# Altium footprint library ST VFPDFN-10.PCBLIB: 1 footprints
Each footprint in its own frame and in the unit in brackets; x right, y up, seen from the top. Pads: shape width x height; smd on the part's side, far side on the other; paste and mask are expansions set on the pad; w line width, h text height; cw(c..) or ccw(c..) is an arc to the next point about the centre after c.
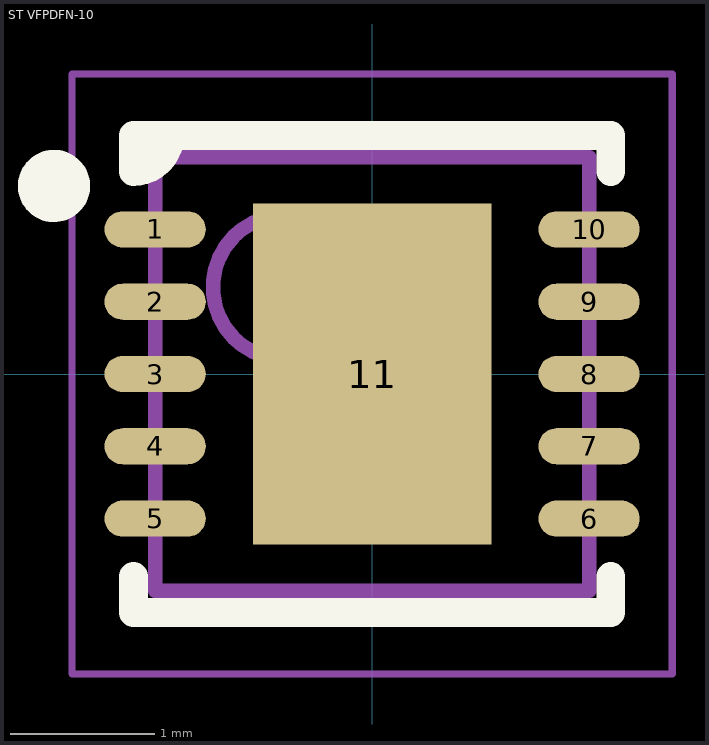
[diagram p0: the footprint, top view; thin cyan lines are the x and y axes]

## ST VFPDFN-10 [mm] "VFPDFN, 10-Leads, Body 3.00x3.00mm, Pitch 0.50mm, Thermal Pad 1.62x2.36mm, IPC Medium Density"
height 1
pads (11):
  oval 0.7x0.25 smd: 1(-1.5,1) 2(-1.5,0.5) 3(-1.5,0) 4(-1.5,-0.5) 5(-1.5,-1) 6(1.5,-1) 7(1.5,-0.5) 8(1.5,0) 9(1.5,0.5) 10(1.5,1)
  rect 1.65x2.36 smd: 11(0,0)
Top Overlay:
  circle w0.25: c-2.2,1.3 r0.125
  region: -1.65,1.65 -1.4,1.65 -1.65,1.4
  lines w0.2: -1.65,-1.4 -1.65,-1.65 1.65,-1.65 1.65,-1.4 ; -1.4,1.65 cw(c-1.65,1.65) -1.65,1.4 -1.65,1.65 1.65,1.65 1.65,1.4
Mechanical 13:
  circle w0.1: c-0.6,0.6 r0.5
  lines w0.1: -1.5,-1.5 1.5,-1.5 1.5,1.5 -1.5,1.5 -1.5,-1.5
Mechanical 15:
  lines w0.05: -2.075,-2.075 2.075,-2.075 2.075,2.075 -2.075,2.075 -2.075,-2.075
  lines w0.1: -0.5,0 0.5,0 ; 0,-0.5 0,0.5
3D body: height 1, standoff 0.01, extent -1.5,-1.5 1.5,1.5